# Altium schematic symbol library Condensator10µF.SchLib: 1 symbol
Pins are listed as number, name and electrical type; pins without a type are passive.

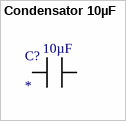
[diagram p0: symbol Condensator 10µF]

## Condensator 10µF
designator C?
footprint CAPC0603X035M (Chip Capacitor, 2-Leads, Body 1.60x0.81mm, IPC Low Density)
pins: 1 (power), 2 (power)
text: 10µF